# Altium footprint library 常用封装.PcbLib: 264 footprints (part 13 of 17)
Each footprint in its own frame and in the unit in brackets; x right, y up, seen from the top. Pads: shape width x height; smd on the part's side, far side on the other; paste and mask are expansions set on the pad; w line width, h text height; cw(c..) or ccw(c..) is an arc to the next point about the centre after c.
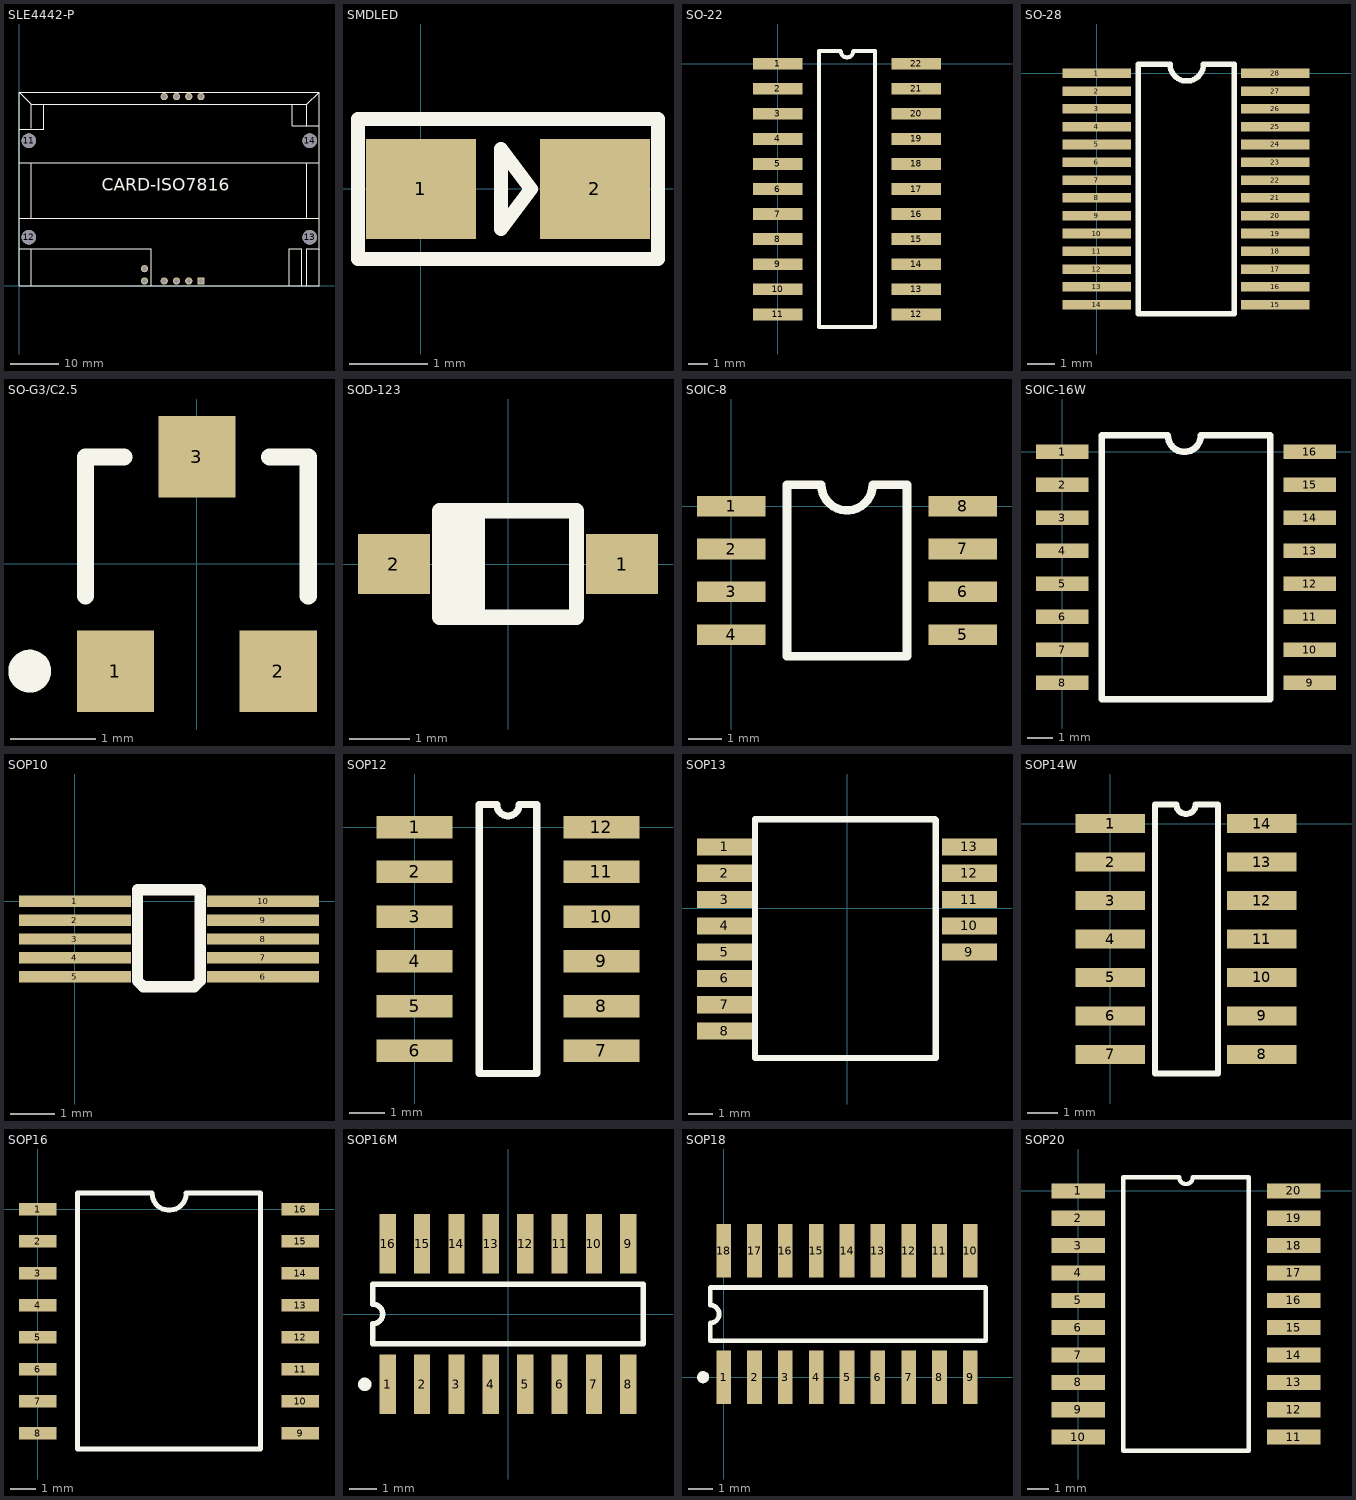
[diagram p12: the footprints below, top view; thin cyan lines are the x and y axes]

## SLE4442-P [mm] "SLE4442CARD,ISO7816"
height 1
pads (14):
  rect 1.5x1.5 hole 1: 1(37.62,1)
  round 1.5 hole 1: 2(35.08,1) 3(32.54,1) 4(30,1) 5(37.62,39.1) 6(35.08,39.1) 7(32.54,39.1) 8(30,39.1) 9(25.936,1) 10(25.936,3.54)
  round 3 hole 3: 11(2.032,30) 12(2.032,10) 13(60.071,10) 14(60.071,30)
Top Overlay:
  lines w0.178: 0,7.62 27.305,7.62 27.305,0 ; 0,13.97 61.873,13.97 ; 0,25.4 62,25.4 ; 0,32.385 5.08,32.385 5.08,37.465 ; 0,39.878 0.127,39.878 2.54,37.465 ; 2.54,0 2.54,7.493 ; 2.54,13.97 2.54,25.4 ; 2.54,32.512 2.54,37.465 ; 55.88,0 55.88,7.62 58.42,7.62 58.42,0 ; 56.515,37.465 56.515,33.02 62,33.02 ; 59.436,0 59.436,7.62 61.873,7.62 62,7.493 ; 59.436,13.97 59.436,25.4 ; 59.436,33.089 59.465,33.118 59.465,37.465 ; 2.54,37.465 59.465,37.465 ; 59.465,37.465 62,40 ; 62,40 62,0 0,0 0,40 62,40
  text "CARD-ISO7816" at 17.145,19.685 h2.54

## SMDLED [mm]
pads (2):
  rect 1.4x1.27 smd: 1(0.001,-0.002) 2(2.211,-0.002)
Top Overlay:
  lines w0.178: 3.012,0.887 3.011,0.887 ; 3.011,0.887 -0.799,0.887 -0.799,-0.002 -0.799,-0.891 3.011,-0.891 3.011,0.887 ; 1.017,-0.51 1.398,-0.002 1.017,0.506 1.017,-0.51

## SO-22 [mm] "BH1417"
height 2
pads (22):
  rect 2.5x0.6 smd: 1(0,0) 2(0,-1.27) 3(0,-2.54) 4(0,-3.81) 5(0,-5.08) 6(0,-6.35) 7(0,-7.62) 8(0,-8.89) 9(0,-10.16) 10(0,-11.43) 11(0,-12.7) 12(7,-12.7) 13(7,-11.43) 14(7,-10.16) 15(7,-8.89) 16(7,-7.62) 17(7,-6.35) 18(7,-5.08) 19(7,-3.81) 20(7,-2.54) 21(7,-1.27) 22(7,0)
Top Overlay:
  lines w0.2: 2.085,-13.335 2.085,0.635 3.183,0.635 ccw(c3.5,0.635) 3.818,0.635 4.915,0.635 4.915,-13.335 2.085,-13.335

## SO-28 [mm] "PCM2702"
height 2
pads (28):
  rect 2.5x0.35 smd: 1(0,0) 2(0,-0.65) 3(0,-1.3) 4(0,-1.95) 5(0,-2.6) 6(0,-3.25) 7(0,-3.9) 8(0,-4.55) 9(0,-5.2) 10(0,-5.85) 11(0,-6.5) 12(0,-7.15) 13(0,-7.8) 14(0,-8.45) 15(6.5,-8.45) 16(6.5,-7.8) 17(6.5,-7.15) 18(6.5,-6.5) 19(6.5,-5.85) 20(6.5,-5.2) 21(6.5,-4.55) 22(6.5,-3.9) 23(6.5,-3.25) 24(6.5,-2.6) 25(6.5,-1.95) 26(6.5,-1.3) 27(6.5,-0.65) 28(6.5,0)
Top Overlay:
  lines w0.2: 4.992,-8.775 1.501,-8.775 1.501,0.325 2.667,0.325 ccw(c3.277,0.325) 3.886,0.325 4.999,0.325 ; 5.004,-8.77 5.004,0.33

## SO-G3/C2.5 [mm] "SOT-23; 3 Leads; Body 3.0 x 2.6 mm, inc. leads (LxW max)"
height 1.1
pads (3):
  rect 0.9x0.95 smd: 1(-0.95,-1.25) 2(0.95,-1.25) 3(0,1.25)
Top Overlay:
  circle w0.25: c-1.95,-1.25 r0.125
  lines w0.2: -1.3,-0.375 -1.3,1.25 -0.85,1.25 ; 0.85,1.25 1.3,1.25 1.3,-0.375

## SOD-123 [mm]
height 1
pads (2):
  rect 1.2x1 smd: 1(1.905,0) 2(-1.905,0)
Top Overlay:
  rectangle: -1.143,-0.889 -0.508,0.889
  lines w0.254: -0.508,-0.889 -0.508,0.889 ; -1.143,-0.889 -1.143,0.889 1.143,0.889 1.143,-0.889 -1.143,-0.889

## SOIC-8 [mil] "SOIC"
height 59.06
pads (8):
  rect 80x24 smd: 1(0,0) 2(0,-50.06) 3(0,-100.06) 4(0,-150.06) 5(270,-150) 6(270,-100) 7(270,-50) 8(270,0)
Top Overlay:
  lines w10: 75,24.94 75.06,25 105,25 ccw(c135,25) 165,25 204.94,25 205,24.94 205,-175.06 65,-175.06 65,24.94 95,24.94

## SOIC-16W [mil] "SIZE:10mm*10.8mm;PIN:1.27mm;"
height 94.49
pads (16):
  rect 80x22 smd: 1(0,0) 2(0,-50) 3(0,-100) 4(0,-150) 5(0,-200) 6(0,-250) 7(0,-300) 8(0,-350) 9(375,-350) 10(375,-300) 11(375,-250) 12(375,-200) 13(375,-150) 14(375,-100) 15(375,-50) 16(375,0)
Top Overlay:
  lines w10: 60,-375 315,-375 315,25 210,25 cw(c185,25) 160,25 60,25 60,-375

## SOP10 [mm]
pads (10):
  rect 2.5x0.254 smd: 1(0,0) 2(0,-0.421) 3(0,-0.842) 4(0,-1.263) 5(0,-1.684) 6(4.2,-1.684) 7(4.2,-1.263) 8(4.2,-0.842) 9(4.2,-0.421) 10(4.2,0)
Top Overlay:
  lines w0.254: 1.397,-1.778 1.524,-1.905 2.667,-1.905 2.794,-1.778 2.794,0.254 1.397,0.254 1.397,-1.778

## SOP12 [mil]
pads (12):
  rect 85x25 smd: 1(0,0) 2(0,-50) 3(0,-100) 4(0,-150) 5(0,-200) 6(0,-250) 7(208.66,-250) 8(208.66,-200) 9(208.66,-150) 10(208.66,-100) 11(208.66,-50) 12(208.66,0)
Top Overlay:
  lines w7.87: 72.24,-275 136.42,-275 136.42,25 116.83,25 cw(c104.33,25) 91.83,25 72.24,25 72.24,-275

## SOP13 [mil] "TEA5767"
height 39.37
pads (13):
  rect 90x28 smd: 1(-200,100) 2(-200,57) 3(-200,14) 4(-200,-29) 5(-200,-72) 6(-200,-115) 7(-200,-158) 8(-200,-201) 9(200,-72) 10(200,-29) 11(200,14) 12(200,57) 13(200,100)
Top Overlay:
  lines w10: 144,145 -150,145 -150,-245 145,-245 145,144

## SOP14W [mil] "CD4066"
height 39.37
pads (14):
  rect 90x25 smd: 1(0,0) 2(0,-50) 3(0,-100) 4(0,-150) 5(0,-200) 6(0,-250) 7(0,-300) 8(196.85,-300) 9(196.85,-250) 10(196.85,-200) 11(196.85,-150) 12(196.85,-100) 13(196.85,-50) 14(196.85,0)
Top Overlay:
  lines w7.87: 57.87,-325 140,-325 140,25 110.93,25 cw(c98.43,25) 85.93,25 57.87,25 57.87,-325

## SOP16 [mm] "1.28mm"
height 2
pads (16):
  rect 1.5x0.5 smd: 1(0,0) 2(0,-1.28) 3(0,-2.56) 4(0,-3.84) 5(0,-5.12) 6(0,-6.4) 7(0,-7.68) 8(0,-8.96) 9(10.5,-8.96) 10(10.5,-7.68) 11(10.5,-6.4) 12(10.5,-5.12) 13(10.5,-3.84) 14(10.5,-2.56) 15(10.5,-1.28) 16(10.5,0)
Top Overlay:
  lines w0.2: 1.585,-9.6 8.915,-9.6 8.915,0.64 5.94,0.64 cw(c5.256,0.64) 4.572,0.64 1.585,0.64 1.585,-9.6

## SOP16M [mm] "Small Outline; 16 Leads; Body Width 3.9 mm; Pitch 1.27 mm"
height 1.75
pads (16):
  rect 0.6x2.2 smd: 1(-4.445,-2.6) 2(-3.175,-2.6) 3(-1.905,-2.6) 4(-0.635,-2.6) 5(0.635,-2.6) 6(1.905,-2.6) 7(3.175,-2.6) 8(4.445,-2.6) 9(4.445,2.6) 10(3.175,2.6) 11(1.905,2.6) 12(0.635,2.6) 13(-0.635,2.6) 14(-1.905,2.6) 15(-3.175,2.6) 16(-4.445,2.6)
Top Overlay:
  circle w0.25: c-5.295,-2.6 r0.125
  lines w0.2: -5,-1.1 5,-1.1 5,1.1 -5,1.1 -5,0.367 cw(c-5,0) -5,-0.367 -5,-1.1

## SOP18 [mm] "Small Outline; 16 Leads; Body Width 3.9 mm; Pitch 1.27 mm"
height 1.75
pads (18):
  rect 0.6x2.2 smd: 1(0,0) 2(1.27,0) 3(2.54,0) 4(3.81,0) 5(5.08,0) 6(6.35,0) 7(7.62,0) 8(8.89,0) 9(10.16,0) 10(10.16,5.207) 11(8.89,5.207) 12(7.62,5.207) 13(6.35,5.207) 14(5.08,5.207) 15(3.81,5.207) 16(2.54,5.207) 17(1.27,5.207) 18(0,5.207)
Top Overlay:
  circle w0.25: c-0.85,0 r0.125
  lines w0.2: -0.555,1.5 10.795,1.5 10.795,3.7 -0.555,3.7 -0.555,2.967 cw(c-0.555,2.6) -0.555,2.233 -0.555,1.5

## SOP20 [mm]
height 0.762
pads (20):
  rect 2.5x0.7 smd: 1(0,0) 2(0,-1.27) 3(0,-2.54) 4(0,-3.81) 5(0,-5.08) 6(0,-6.35) 7(0,-7.62) 8(0,-8.89) 9(0,-10.16) 10(0,-11.43) 11(10,-11.43) 12(10,-10.16) 13(10,-8.89) 14(10,-7.62) 15(10,-6.35) 16(10,-5.08) 17(10,-3.81) 18(10,-2.54) 19(10,-1.27) 20(10,0)
Top Overlay:
  lines w0.2: 2.085,-12.065 7.915,-12.065 7.915,0.635 5.318,0.635 cw(c5,0.635) 4.683,0.635 2.085,0.635 2.085,-12.065